# Altium schematic symbol library SuperScamp.SchLib: 3 symbols
Pins are listed as number, name and electrical type; pins without a type are passive.

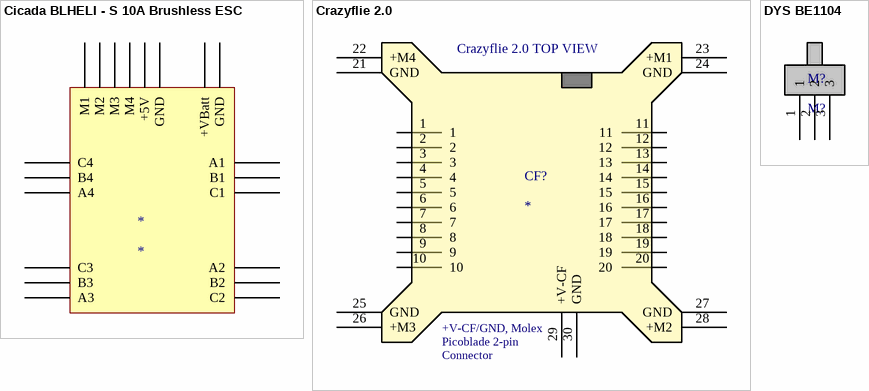
[diagram p0: symbols Cicada BLHELI - S 10A Brushless ESC to DYS BE1104]

## Cicada BLHELI - S 10A Brushless ESC
designator *
pins: 1 A1, 2 B1, 3 C1, 4 A2, 5 B2, 6 C2, 7 A3, 8 B3, 9 C3, 10 A4, 11 B4, 12 C4, 13 M1, 14 M2, 15 M3, 16 M4, 17 +5V, 18 GND, 18 +VBatt, 19 GND

## Crazyflie 2.0
designator CF?
pins: 1, 2, 3, 4, 5, 6, 7, 8, 9, 10, 11, 12, 13, 14, 15, 16, 17, 18, 19, 20, 21 GND, 22 +M4, 23 +M1, 24 GND, 25 GND, 26 +M3, 27 GND, 28 +M2, 29 +V-CF, 30 GND
text: Crazyflie 2.0 TOP VIEW; +V-CF/GND, Molex Picoblade 2-pin Connector /

## DYS BE1104
designator M?, comment M?
pins: 1, 2, 3